# EAGLE library part PS45M-0MC2BR10K (library SamacSys_Parts)
Slide Potentiometers 10K Ohms 20% SLIDE POTENTIOMETER Source: Datasheet <https://componentsearchengine.com/Datasheets/1/PS45M-0MC2BR10K.pdf>
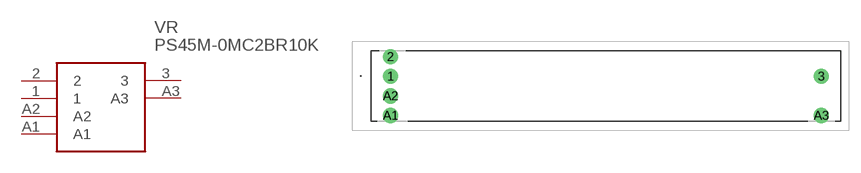
[diagram p0: symbol with the pads of PS45M0MC2BR10K; footprint PS45M0MC2BR10K]

Designator prefix VR

## PS45M-0MC2BR10K (Description: Slide Potentiometers 10K Ohms 20% SLIDE POTENTIOMETER; Height: 23mm; Manufacturer_Name: BI Technologies; Manufacturer_Part_Number: PS45M-0MC2BR10K; Mouser_Part_Number: 858-PS45M0MC2BR10K; Mouser_Price-Stock: https://www.mouser.com/Search/Refine.aspx?Keyword=858-PS45M0MC2BR10K)  [PS45M0MC2BR10K]
1  1
2  2
3  3
A1  A1
A2  A2
A3  A3

## Footprint PS45M0MC2BR10K (pad centres in mm)
PS45M-0MC2BR10K-1
drill 1.3 pad 1.95: 1 0,0; 2 0,2.5; 3 55,0; A1 0,-5; A2 0,-2.5; A3 55,-5